# Altium footprint library PCB - CONNECTOR - HIROSE - HIROSE DF40HC(3.0)-100DS-0.4v.PCBLIB: 3 footprints
Each footprint in its own frame and in the unit in brackets; x right, y up, seen from the top. Pads: shape width x height; smd on the part's side, far side on the other; paste and mask are expansions set on the pad; w line width, h text height; cw(c..) or ccw(c..) is an arc to the next point about the centre after c.
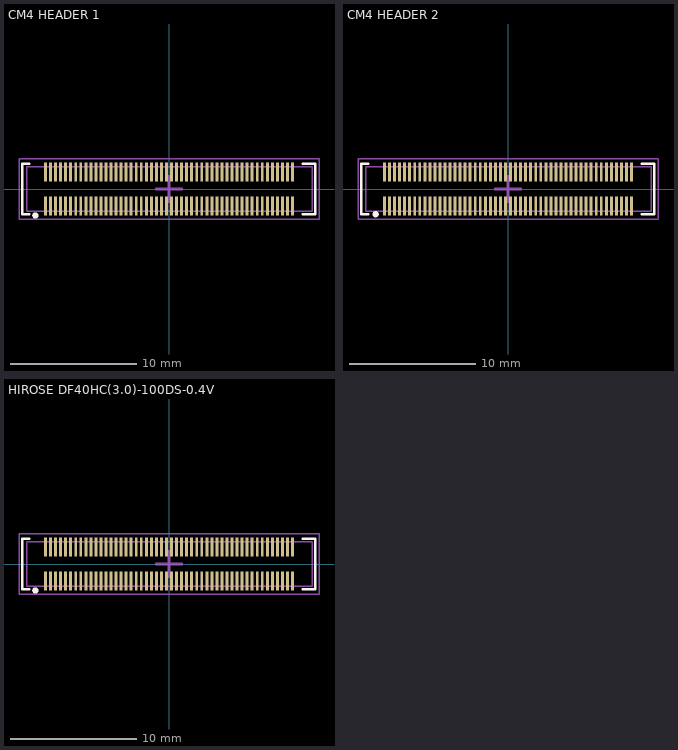
[diagram p0: the footprints below, top view; thin cyan lines are the x and y axes]

## CM4 HEADER 1 [mm] "100 Position Connector Plug, Outer Shroud Contacts Surface Mount Gold"
height 2.9
pads (100):
  rect 0.23x1.5 smd: 1(-9.8,-1.355) 2(-9.8,1.355) 3(-9.4,-1.355) 4(-9.4,1.355) 5(-9,-1.355) 6(-9,1.355) 7(-8.6,-1.355) 8(-8.6,1.355) 9(-8.2,-1.355) 10(-8.2,1.355) 11(-7.8,-1.355) 12(-7.8,1.355) 13(-7.4,-1.355) 14(-7.4,1.355) 15(-7,-1.355) 16(-7,1.355) 17(-6.6,-1.355) 18(-6.6,1.355) 19(-6.2,-1.355) 20(-6.2,1.355) 21(-5.8,-1.355) 22(-5.8,1.355) 23(-5.4,-1.355) 24(-5.4,1.355) 25(-5,-1.355) 26(-5,1.355) 27(-4.6,-1.355) 28(-4.6,1.355) 29(-4.2,-1.355) 30(-4.2,1.355) 31(-3.8,-1.355) 32(-3.8,1.355) 33(-3.4,-1.355) 34(-3.4,1.355) 35(-3,-1.355) 36(-3,1.355) 37(-2.6,-1.355) 38(-2.6,1.355) 39(-2.2,-1.355) 40(-2.2,1.355) 41(-1.8,-1.355) 42(-1.8,1.355) 43(-1.4,-1.355) 44(-1.4,1.355) 45(-1,-1.355) 46(-1,1.355) 47(-0.6,-1.355) 48(-0.6,1.355) 49(-0.2,-1.355) 50(-0.2,1.355) 51(0.2,-1.355) 52(0.2,1.355) 53(0.6,-1.355) 54(0.6,1.355) 55(1,-1.355) 56(1,1.355) 57(1.4,-1.355) 58(1.4,1.355) 59(1.8,-1.355) 60(1.8,1.355) 61(2.2,-1.355) 62(2.2,1.355) 63(2.6,-1.355) 64(2.6,1.355) 65(3,-1.355) 66(3,1.355) 67(3.4,-1.355) 68(3.4,1.355) 69(3.8,-1.355) 70(3.8,1.355) 71(4.2,-1.355) 72(4.2,1.355) 73(4.6,-1.355) 74(4.6,1.355) 75(5,-1.355) 76(5,1.355) 77(5.4,-1.355) 78(5.4,1.355) 79(5.8,-1.355) 80(5.8,1.355) 81(6.2,-1.355) 82(6.2,1.355) 83(6.6,-1.355) 84(6.6,1.355) 85(7,-1.355) 86(7,1.355) 87(7.4,-1.355) 88(7.4,1.355) 89(7.8,-1.355) 90(7.8,1.355) 91(8.2,-1.355) 92(8.2,1.355) 93(8.6,-1.355) 94(8.6,1.355) 95(9,-1.355) 96(9,1.355) 97(9.4,-1.355) 98(9.4,1.355) 99(9.8,-1.355) 100(9.8,1.355)
Top Overlay:
  circle w0.25: c-10.6,-2.1 r0.125
  lines w0.2: -11.1,-2 -11.65,-2 -11.65,2 -11.1,2 ; 10.6,-2 11.6,-2 11.6,2 10.6,2
Mechanical 13:
  lines w0.1: -11.277,-1.75 -11.277,1.75 11.35,1.75 11.35,-1.75 -11.277,-1.75
Mechanical 15:
  lines w0.1: -11.9,-2.4 -11.9,2.4 11.9,2.4 11.9,-2.4 -11.9,-2.4
  lines w0.2: -1,0 1,0 ; 0,-1 0,1
3D body "Hirose - DF40HC(3.0)-100DS-0.4V.stp": height 2.9, standoff 0, extent -11.3,-1.69 11.3,1.69

## CM4 HEADER 2 [mm] "100 Position Connector Plug, Outer Shroud Contacts Surface Mount Gold"
height 2.9
pads (100):
  rect 0.23x1.5 smd: 101(-9.8,-1.355) 102(-9.8,1.355) 103(-9.4,-1.355) 104(-9.4,1.355) 105(-9,-1.355) 106(-9,1.355) 107(-8.6,-1.355) 108(-8.6,1.355) 109(-8.2,-1.355) 110(-8.2,1.355) 111(-7.8,-1.355) 112(-7.8,1.355) 113(-7.4,-1.355) 114(-7.4,1.355) 115(-7,-1.355) 116(-7,1.355) 117(-6.6,-1.355) 118(-6.6,1.355) 119(-6.2,-1.355) 120(-6.2,1.355) 121(-5.8,-1.355) 122(-5.8,1.355) 123(-5.4,-1.355) 124(-5.4,1.355) 125(-5,-1.355) 126(-5,1.355) 127(-4.6,-1.355) 128(-4.6,1.355) 129(-4.2,-1.355) 130(-4.2,1.355) 131(-3.8,-1.355) 132(-3.8,1.355) 133(-3.4,-1.355) 134(-3.4,1.355) 135(-3,-1.355) 136(-3,1.355) 137(-2.6,-1.355) 138(-2.6,1.355) 139(-2.2,-1.355) 140(-2.2,1.355) 141(-1.8,-1.355) 142(-1.8,1.355) 143(-1.4,-1.355) 144(-1.4,1.355) 145(-1,-1.355) 146(-1,1.355) 147(-0.6,-1.355) 148(-0.6,1.355) 149(-0.2,-1.355) 150(-0.2,1.355) 151(0.2,-1.355) 152(0.2,1.355) 153(0.6,-1.355) 154(0.6,1.355) 155(1,-1.355) 156(1,1.355) 157(1.4,-1.355) 158(1.4,1.355) 159(1.8,-1.355) 160(1.8,1.355) 161(2.2,-1.355) 162(2.2,1.355) 163(2.6,-1.355) 164(2.6,1.355) 165(3,-1.355) 166(3,1.355) 167(3.4,-1.355) 168(3.4,1.355) 169(3.8,-1.355) 170(3.8,1.355) 171(4.2,-1.355) 172(4.2,1.355) 173(4.6,-1.355) 174(4.6,1.355) 175(5,-1.355) 176(5,1.355) 177(5.4,-1.355) 178(5.4,1.355) 179(5.8,-1.355) 180(5.8,1.355) 181(6.2,-1.355) 182(6.2,1.355) 183(6.6,-1.355) 184(6.6,1.355) 185(7,-1.355) 186(7,1.355) 187(7.4,-1.355) 188(7.4,1.355) 189(7.8,-1.355) 190(7.8,1.355) 191(8.2,-1.355) 192(8.2,1.355) 193(8.6,-1.355) 194(8.6,1.355) 195(9,-1.355) 196(9,1.355) 197(9.4,-1.355) 198(9.4,1.355) 199(9.8,-1.355) 200(9.8,1.355)
Top Overlay:
  circle w0.25: c-10.5,-2 r0.125
  lines w0.2: -11.1,-2 -11.65,-2 -11.65,2 -11.1,2 ; 10.6,-2 11.6,-2 11.6,2 10.6,2
Mechanical 13:
  lines w0.1: -11.277,-1.75 11.35,-1.75 11.35,1.75 -11.277,1.75 -11.277,-1.75
Mechanical 15:
  lines w0.1: -11.9,-2.4 11.9,-2.4 11.9,2.4 -11.9,2.4 -11.9,-2.4
  lines w0.2: -1,0 1,0 ; 0,-1 0,1
3D body "Hirose - DF40HC(3.0)-100DS-0.4V.stp": height 2.9, standoff 0, extent -11.3,-1.69 11.3,1.69

## HIROSE DF40HC(3.0)-100DS-0.4V [mm] "100 Position Connector Plug, Outer Shroud Contacts Surface Mount Gold"
height 2.9
pads (100):
  rect 0.23x1.5 smd: 1(-9.8,-1.355) 2(-9.8,1.355) 3(-9.4,-1.355) 4(-9.4,1.355) 5(-9,-1.355) 6(-9,1.355) 7(-8.6,-1.355) 8(-8.6,1.355) 9(-8.2,-1.355) 10(-8.2,1.355) 11(-7.8,-1.355) 12(-7.8,1.355) 13(-7.4,-1.355) 14(-7.4,1.355) 15(-7,-1.355) 16(-7,1.355) 17(-6.6,-1.355) 18(-6.6,1.355) 19(-6.2,-1.355) 20(-6.2,1.355) 21(-5.8,-1.355) 22(-5.8,1.355) 23(-5.4,-1.355) 24(-5.4,1.355) 25(-5,-1.355) 26(-5,1.355) 27(-4.6,-1.355) 28(-4.6,1.355) 29(-4.2,-1.355) 30(-4.2,1.355) 31(-3.8,-1.355) 32(-3.8,1.355) 33(-3.4,-1.355) 34(-3.4,1.355) 35(-3,-1.355) 36(-3,1.355) 37(-2.6,-1.355) 38(-2.6,1.355) 39(-2.2,-1.355) 40(-2.2,1.355) 41(-1.8,-1.355) 42(-1.8,1.355) 43(-1.4,-1.355) 44(-1.4,1.355) 45(-1,-1.355) 46(-1,1.355) 47(-0.6,-1.355) 48(-0.6,1.355) 49(-0.2,-1.355) 50(-0.2,1.355) 51(0.2,-1.355) 52(0.2,1.355) 53(0.6,-1.355) 54(0.6,1.355) 55(1,-1.355) 56(1,1.355) 57(1.4,-1.355) 58(1.4,1.355) 59(1.8,-1.355) 60(1.8,1.355) 61(2.2,-1.355) 62(2.2,1.355) 63(2.6,-1.355) 64(2.6,1.355) 65(3,-1.355) 66(3,1.355) 67(3.4,-1.355) 68(3.4,1.355) 69(3.8,-1.355) 70(3.8,1.355) 71(4.2,-1.355) 72(4.2,1.355) 73(4.6,-1.355) 74(4.6,1.355) 75(5,-1.355) 76(5,1.355) 77(5.4,-1.355) 78(5.4,1.355) 79(5.8,-1.355) 80(5.8,1.355) 81(6.2,-1.355) 82(6.2,1.355) 83(6.6,-1.355) 84(6.6,1.355) 85(7,-1.355) 86(7,1.355) 87(7.4,-1.355) 88(7.4,1.355) 89(7.8,-1.355) 90(7.8,1.355) 91(8.2,-1.355) 92(8.2,1.355) 93(8.6,-1.355) 94(8.6,1.355) 95(9,-1.355) 96(9,1.355) 97(9.4,-1.355) 98(9.4,1.355) 99(9.8,-1.355) 100(9.8,1.355)
Top Overlay:
  circle w0.25: c-10.6,-2.1 r0.125
  lines w0.2: -11.1,-2 -11.65,-2 -11.65,2 -11.1,2 ; 10.6,-2 11.6,-2 11.6,2 10.6,2
Mechanical 13:
  lines w0.1: -11.277,-1.75 11.35,-1.75 11.35,1.75 -11.277,1.75 -11.277,-1.75
Mechanical 15:
  lines w0.1: -11.9,-2.4 11.9,-2.4 11.9,2.4 -11.9,2.4 -11.9,-2.4
  lines w0.2: -1,0 1,0 ; 0,-1 0,1
3D body "Hirose - DF40HC(3.0)-100DS-0.4V.stp": height 2.9, standoff 0, extent -11.3,-1.69 11.3,1.69